# EAGLE library part ADUC816 (library ADuC816)
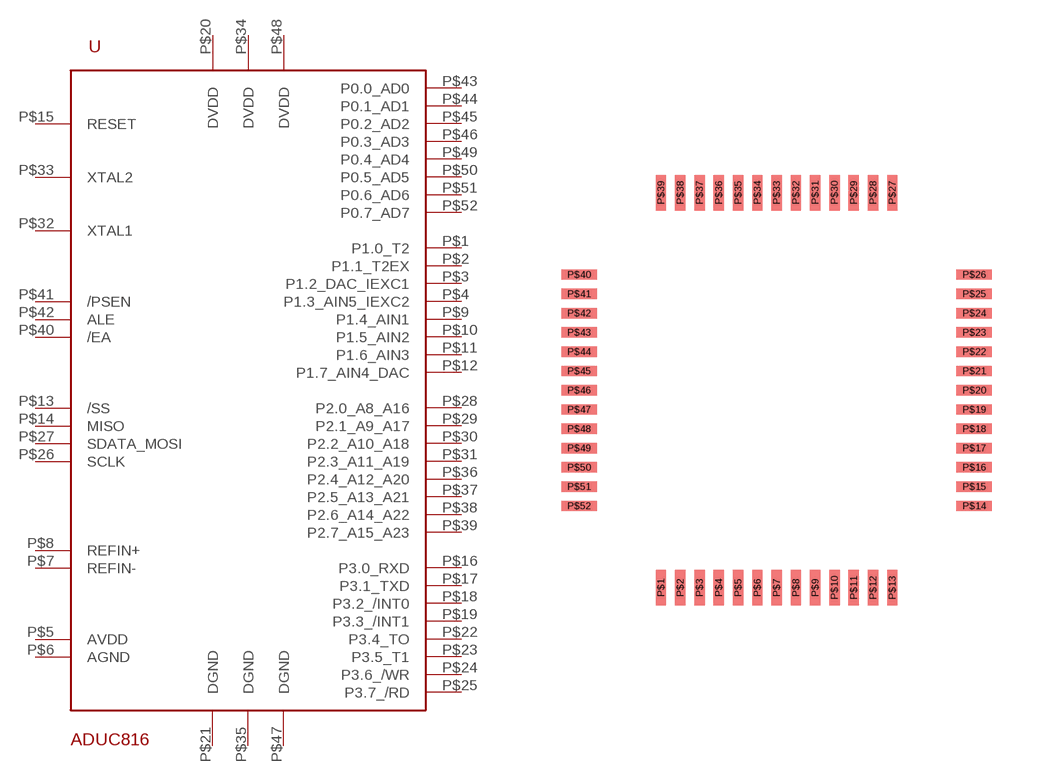
[diagram p0: symbol with the pads of MQFP-52; footprint MQFP-52]

Designator prefix -

## ADUC816  [MQFP-52]
P$1  P1.0_T2
P$2  P1.1_T2EX
P$3  P1.2_DAC_IEXC1
P$4  P1.3_AIN5_IEXC2
P$5  AVDD
P$6  AGND
P$7  REFIN-
P$8  REFIN+
P$9  P1.4_AIN1
P$10  P1.5_AIN2
P$11  P1.6_AIN3
P$12  P1.7_AIN4_DAC
P$13  /SS
P$14  MISO
P$15  RESET
P$16  P3.0_RXD
P$17  P3.1_TXD
P$18  P3.2_/INT0
P$19  P3.3_/INT1
P$20  DVDD
P$21  DGND
P$22  P3.4_TO
P$23  P3.5_T1
P$24  P3.6_/WR
P$25  P3.7_/RD
P$26  SCLK
P$27  SDATA_MOSI
P$28  P2.0_A8_A16
P$29  P2.1_A9_A17
P$30  P2.2_A10_A18
P$31  P2.3_A11_A19
P$32  XTAL1
P$33  XTAL2
P$34  DVDD
P$35  DGND
P$36  P2.4_A12_A20
P$37  P2.5_A13_A21
P$38  P2.6_A14_A22
P$39  P2.7_A15_A23
P$40  /EA
P$41  /PSEN
P$42  ALE
P$43  P0.0_AD0
P$44  P0.1_AD1
P$45  P0.2_AD2
P$46  P0.3_AD3
P$47  DGND
P$48  DVDD
P$49  P0.4_AD4
P$50  P0.5_AD5
P$51  P0.6_AD6
P$52  P0.7_AD7

## Footprint MQFP-52 (pad centres in mm)
smd 0.35 x 1.2: P$1 -3.9,-6.662; P$2 -3.25,-6.662; P$3 -2.6,-6.662; P$4 -1.95,-6.662; P$5 -1.3,-6.662; P$6 -0.65,-6.662; P$7 0,-6.662; P$8 0.65,-6.662; P$9 1.3,-6.662; P$10 1.95,-6.662; P$11 2.6,-6.662; P$12 3.25,-6.662; P$13 3.9,-6.662; P$27 3.9,6.662; P$28 3.25,6.662; P$29 2.6,6.662; P$30 1.95,6.662; P$31 1.3,6.662; P$32 0.65,6.662; P$33 0,6.662; P$34 -0.65,6.662; P$35 -1.3,6.662; P$36 -1.95,6.662; P$37 -2.6,6.662; P$38 -3.25,6.662; P$39 -3.9,6.662
smd 1.2 x 0.35: P$14 6.662,-3.9; P$15 6.662,-3.25; P$16 6.662,-2.6; P$17 6.662,-1.95; P$18 6.662,-1.3; P$19 6.662,-0.65; P$20 6.662,0; P$21 6.662,0.65; P$22 6.662,1.3; P$23 6.662,1.95; P$24 6.662,2.6; P$25 6.662,3.25; P$26 6.662,3.9; P$40 -6.662,3.9; P$41 -6.662,3.25; P$42 -6.662,2.6; P$43 -6.662,1.95; P$44 -6.662,1.3; P$45 -6.662,0.65; P$46 -6.662,0; P$47 -6.662,-0.65; P$48 -6.662,-1.3; P$49 -6.662,-1.95; P$50 -6.662,-2.6; P$51 -6.662,-3.25; P$52 -6.662,-3.9